# Altium schematic symbol library Sika_revb.SchLib: 143 symbols (part 1 of 3)
Pins are listed as number, name and electrical type; pins without a type are passive.

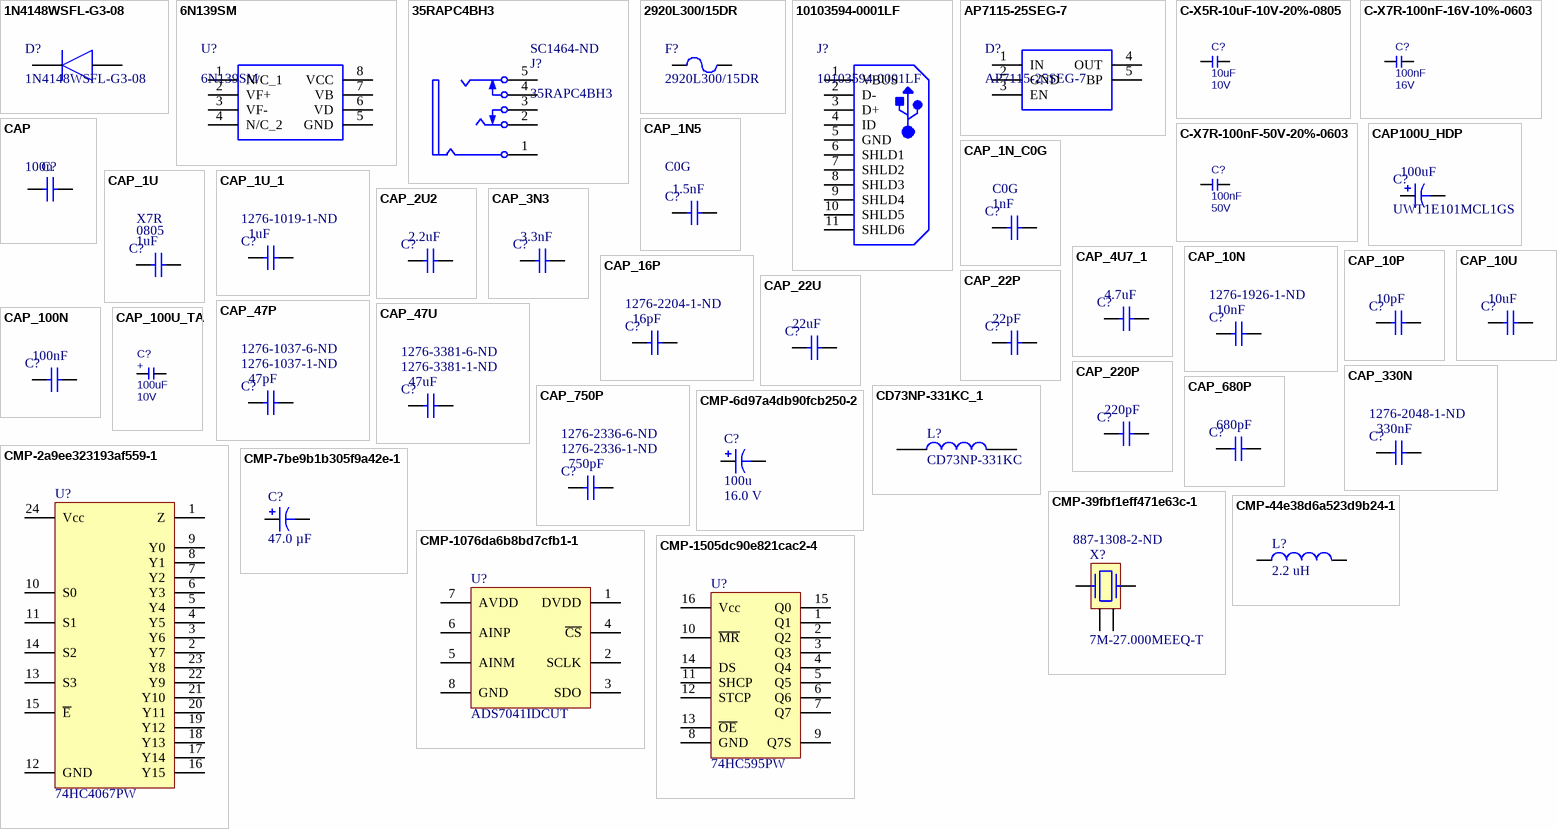
[diagram p0: symbols 1N4148WSFL-G3-08 to CMP-1505dc90e821cac2-4]

## 1N4148WSFL-G3-08
designator D?
Diodes - General Purpose, Power, Switching 100volt 350mA 4ns; Manufacturer: Vishay Semiconductors; Max Repetitive Reverse Voltage (Vrrm): 100V; Forward Current: 150mA; Element Configuration: Single; Max Reverse Voltage (DC): 75V; Forward Voltage: 1.2V; Peak Reverse Current: 100uA; Power Dissipation: 250mW; Max Power Dissipation: 200mW; Manufacturer Part Number: 1N4148WSFL-G3-08; Mount: Surface Mount; Number of Pins: 2; Weight: 0.001164oz; Contact Plating: Tin; Min Operating Temperature: -55°C; Max Operating Temperature: 150°C; Packaging: Tape and Reel; Package Quantity: 3000; Reverse Recovery Time: 4ns; Average Rectified Current: 150mA; Recovery Time: 4ns; Peak Non-Repetitive Surge Current: 350mA; Max Surge Current: 350mA; Length: 1.8mm; Height: 1mm; Width: 1.35mm; ComponentLink1URL: https://media.digikey.com/pdf/Data%20Sheets/Vishay%20Semiconductors/1N4148WSFL-G.pdf; ComponentLink1Description: https://media.digikey.com/pdf/Data%20Sheets/Vishay%20Semiconductors/1N4148WSFL-G.pdf; ComponentLink2URL: //media.digikey.com/pdf/Data%20Sheets/Vishay%20Semiconductors/1N4148WSFL-G.pdf; ComponentLink2Description: //media.digikey.com/pdf/Data%20Sheets/Vishay%20Semiconductors/1N4148WSFL-G.pdf; Supplier 1: Mouser; Supplier 2: Digi-Key; Supplier Part Number 1: 512-1N914BWS; Supplier Part Number 2: 1N4148WSFL-G3-08GICT-ND
footprint SOD2513X120N
pins: 1 K, 2 A

## 6N139SM
designator U?
Optocoupler DC-IN 1-CH Darlington With Base DC-OUT 8-Pin PDIP SMD White Bulk; Manufacturer: ON Semiconductor / Fairchild; Number of Channels: 1; Max Power Dissipation: 100mW; Forward Current: 20mA; Rise Time: 60us; Reverse Breakdown Voltage: 5V; Forward Voltage: 1.7V; Output Voltage: 18V; Output Current per Channel: 60mA; Fall Time: 25us; Current Transfer Ratio: 1600%; Data Rate: 0.1Mbps; Manufacturer Part Number: 6N139SM; Mount: Surface Mount; Case/Package: SMD/SMT; Number of Pins: 8; Weight: 0.72g; Min Operating Temperature: -40°C; Max Operating Temperature: 100°C; Packaging: Bulk; Package Quantity: 1000; Number of Elements: 1; Power Dissipation: 100mW; Max Input Current: 20mA; ComponentLink1URL: http://www.fairchildsemi.com/datasheets/6N/6N138M.pdf; ComponentLink1Description: http://www.fairchildsemi.com/datasheets/6N/6N138M.pdf; ComponentLink2URL: http://www.mouser.com/ds/2/149/6N139M-465959.pdf; ComponentLink2Description: http://www.mouser.com/ds/2/149/6N139M-465959.pdf; ComponentLink3URL: https://www.fairchildsemi.com/datasheets/6N/6N138M.pdf; ComponentLink3Description: https://www.fairchildsemi.com/datasheets/6N/6N138M.pdf; Supplier 1: Digi-Key; Supplier 2: Digi-Key; Supplier Part Number 1: 6N139SM-ND; Supplier Part Number 2: 6N139SMCT-ND
footprint SOT254P1054X508-8N
pins: 1 N/C_1, 2 VF+, 3 VF-, 4 N/C_2, 5 GND, 6 VD, 7 VB, 8 VCC (power)

## 35RAPC4BH3
designator J?  Supplier Part Number 1: SC1464-ND
CONN JACK STEREO 3.5MM R/A; Manufacturer: Switchcraft; Body Material: Plastic; Number of Poles: 3; Gender: Female; Voltage Rating: 500V; Shielding: Unshielded; Number of Ports: 1; Number of Contacts: 5; Cable Length: 17.5mm; Supplier 1: Digi-Key; Manufacturer Part Number: 35RAPC4BH3; Stock 1: 31843; Pricing 1: 1 = 2,10000, 10 = 2,01600, 25 = 1,84800, 50 = 1,76400, 100 = 1,68000, 250 = 1,47000, 500 = 1,42800, 1000 = 1,31250 (USD); RoHS: Yes; Mount: Through Hole; Weight: 0.059966oz; Contact Plating: Nickel; Color: Black; Contact Material: Copper Alloy; Number of Terminals: 5; Housing Color: Black; Housing Material: Thermoplastic; Package Quantity: 1; Packaging: Bulk; Termination: Solder; Orientation: Right Angle; Number of Positions: 3; Length: 11.5mm; Depth: 17.5mm; REACH SVHC: No SVHC; Lead Free: Lead Free; ComponentLink1URL: https://datasheet.ciiva.com/19454/568392-19454146.pdf?src-supplier=Jameco; ComponentLink1Description: https://datasheet.ciiva.com/19454/568392-19454146.pdf?src-supplier=Jameco; ComponentLink2URL: https://datasheet.ciiva.com/20210/20-1660-20210974.pdf?src-supplier=Rapid+Electronics; ComponentLink2Description: https://datasheet.ciiva.com/20210/20-1660-20210974.pdf?src-supplier=Rapid+Electronics; ComponentLink3URL: https://datasheet.ciiva.com/16878/70214416-16878982.pdf?src-supplier=Allied+Electronics; ComponentLink3Description: https://datasheet.ciiva.com/16878/70214416-16878982.pdf?src-supplier=Allied+Electronics; ComponentLink4URL: https://datasheet.ciiva.com/390/35rapc-h3-cd-390492.pdf?src-supplier=Digi-Key; ComponentLink4Description: https://datasheet.ciiva.com/390/35rapc-h3-cd-390492.pdf?src-supplier=Digi-Key
footprint 35RAPC4BH3
pins: 1 S, 2 T, 3 TN, 4 RN, 5 R

## 2920L300/15DR
designator F?
PTC RESETTABLE 15V 3A SMD 2920; Manufacturer: Littelfuse; Max Current Rating: 40A; Resistance: 48mR; Power Dissipation: 1.5W; Trip Current: 5A; Time to Trip: 20s; Approvals: cULus,TUV; Manufacturer Part Number: 2920L300/15DR; Case/Package: 2920; Case Code (Metric): 7351; Case Code (Imperial): 2920; Min Operating Temperature: -40°C; Max Operating Temperature: 85°C; Operating Supply Voltage: 15V; Packaging: Tape and Reel; Current Rating: 40A; Package Quantity: 1500; Termination: SMD/SMT; Max Voltage Rating (DC): 15V; Hold Current: 3A; Voltage Rating (DC): 15V; Working Voltage: 15V; Length: 7.36mm; REACH SVHC: No SVHC; Lead Free: Lead Free; ComponentLink1URL: http://www.farnell.com/datasheets/578244.pdf; ComponentLink1Description: http://www.farnell.com/datasheets/578244.pdf; ComponentLink2URL: http://www.littelfuse.com/data/en/Data_Sheets/Littelfuse_2920L.pdf; ComponentLink2Description: http://www.littelfuse.com/data/en/Data_Sheets/Littelfuse_2920L.pdf; ComponentLink3URL: http://www.littelfuse.com/~/media/electronics/datasheets/resettable_ptcs/littelfuse_ptc_2920l_datasheet.pdf.pdf; ComponentLink3Description: http://www.littelfuse.com/~/media/electronics/datasheets/resettable_ptcs/littelfuse_ptc_2920l_datasheet.pdf.pdf; Supplier 1: Mouser; Supplier Part Number 1: 576-2920L300/15DR
footprint LFUS-2920L30015DR_V (SMD, 2-Leads, Body 5.12x7.355mm)
pins: 1, 2

## 10103594-0001LF
designator J?
USB - micro B USB 2.0 Receptacle Connector 5 Position Surface Mount, Right Angle, Horizontal; Manufacturer: Amphenol FCI; Voltage Rating: 100V; Current Rating: 1.8A; Connector Type: Receptacle,USB; Number of Ports: 1; Insulation Resistance: 1GR; Number of Contacts: 5; USB Standard: USB 2.0; Pitch: 0.65mm; Manufacturer Part Number: 10103594-0001LF; Mount: Horizontal,Surface Mount; Contact Plating: Gold; Contact Material: Copper,Copper Alloy; Number of Terminals: 5; Housing Material: Thermoplastic; Min Operating Temperature: -55°C; Max Operating Temperature: 85°C; Termination: Solder; Orientation: Right Angle; Gender: Receptacle; Packaging: Tape and Reel; Package Quantity: 1500; Max Voltage Rating (AC): 100V; Features: Shielded; Length: 8.04mm; Radiation Hardening: No; REACH SVHC: No SVHC; Lead Free: Lead Free; Supplier 1: Digi-Key; Supplier Part Number 1: 609-4613-1-ND
footprint micro usb
pins: 1 VBUS, 2 D-, 3 D+, 4 ID, 5 GND, 6 SHLD1, 7 SHLD2, 8 SHLD3, 9 SHLD4, 10 SHLD5, 11 SHLD6

## AP7115-25SEG-7
designator D?
PSU_IC REG LDO 2.5V 0.15A SOT353; Manufacturer: Diodes; Max Power Dissipation: 500mW; Number of Outputs: 1; Max Input Voltage: 5.5V; Max Output Current: 150mA; Quiescent Current: 80uA; Polarity: Positive; Accuracy: 2%; Output Type: Fixed; Dropout Voltage: 200mV; Min Current Limit: 200mA; Power Supply Rejection Ratio (PSRR): 70dB; Manufacturer Part Number: AP7115-25SEG-7; Mount: Surface Mount; Case/Package: SOT-353; Number of Pins: 5; Contact Plating: Matte,Tin; Min Operating Temperature: -40°C; Max Operating Temperature: 85°C; Output Voltage: 2.5V; Packaging: Tape and Reel; Min Input Voltage: 2.5V; Package Quantity: 1; Output Current: 150mA; Number of Regulators: 1; Power Rating: 500mW; Input Bias Current: 80uA; Length: 3mm; Height: 1.1mm; Width: 1.6mm; Supplier 1: Digi-Key; Supplier Part Number 1: AP7115-25SEGDICT-ND
footprint SOT65P210X110-5N
pins: 1 IN, 2 GND, 3 EN, 4 OUT, 5 BP

## C-X5R-10uF-10V-20%-0805
designator C?, comment Capacitance: 10uF  Rating: 10V  (hidden comment: CL21A106MPFNNNE)
Capacitor Ceramic X5R 10uF 10V 20% 0805; Tolerance: 20%; Temperature coefficient: X5R; Supplier 1: Digi-Key; Supplier 2: Digi-Key; Supplier Part Number 1: 1276-1144-1-ND; Supplier Part Number 2: 1276-1144-6-ND
footprint T_CAPC0805X125N (Footprint not found)
pins: 1, 2

## C-X7R-100nF-16V-10%-0603
designator C?, comment Rating: 16V  (hidden comment: 100nF)
Capacitor Ceramic X7R 100nF 16V 10% 0603; Tolerance: 10%; Type: X7R; Value: 100nF
footprint T_CAPC0603X33N
pins: 1, 2

## C-X7R-100nF-50V-20%-0603
designator C?, comment Rating: 50V  (hidden comment: 100nF)
Capacitor Ceramic X7R 100nF 50V 20% 0603; Tolerance: 20%; Type: X7R; Value: 100nF
footprint T_CAPC0603X33N
pins: 1, 2

## CAP
designator C?  Capacitance: 100n
Generic Capacitor, credits for 3D models: Mike Tripoli; Voltage rating: *V; CustomComponentID: e3upc6qrffzvpl01piyy; Characteristic: *
footprint C0402
footprint C0603
footprint C0805
footprint C1210
pins: 1, 2

## CAP100U_HDP
designator C?, comment UWT1E101MCL1GS  Capacitance: 100uF
CAP ALUM 100UF 20% 25V SMD; Manufacturer: Nichicon; Dielectric Material: Aluminium; Ripple Current: 91mA; Leakage Current: 25uA; Life (Hours): 1000Hour; Supplier 1: Digi-Key; Manufacturer Part Number: UWT1E101MCL1GS; Stock 1: 50190; Pricing 1: 1 = 0,42000, 10 = 0,29000, 100 = 0,17420 (USD); RoHS: Yes; Mount: Surface Mount; Case/Package: Radial; Number of Pins: 2; Contact Plating: Tin; Min Operating Temperature: -55°C; Max Operating Temperature: 105°C; Tolerance: 20%; Package Quantity: 900; Voltage Rating: 25V; Packaging: Tape and Reel; Ripple Current (AC): 91mA; Voltage Rating (DC): 25V; Termination: SMD/SMT; Voltage: 25V; Diameter: 6.3mm; Length: 7.7mm; Height: 7.7mm; Height - Seated (Max): 0.303inch; Radiation Hardening: No; REACH SVHC: No SVHC; Lead Free: Lead Free; ComponentLink1URL: https://datasheet.ciiva.com/96/e-wt-96674.pdf?src-supplier=Digi-Key; ComponentLink1Description: https://datasheet.ciiva.com/96/e-wt-96674.pdf?src-supplier=Digi-Key; ComponentLink2URL: https://datasheet.ciiva.com/96/e-wt-96675.pdf?src-supplier=Digi-Key; ComponentLink2Description: https://datasheet.ciiva.com/96/e-wt-96675.pdf?src-supplier=Digi-Key; ComponentLink3URL: https://datasheet.ciiva.com/96/e-wt-96676.pdf?src-supplier=Digi-Key; ComponentLink3Description: https://datasheet.ciiva.com/96/e-wt-96676.pdf?src-supplier=Digi-Key; ComponentLink4URL: https://datasheet.ciiva.com/11776/0900766b80fa3a91-11776931.pdf?src-supplier=RSComponents; ComponentLink4Description: https://datasheet.ciiva.com/11776/0900766b80fa3a91-11776931.pdf?src-supplier=RSComponents; ComponentLink5URL: https://datasheet.ciiva.com/7851/e-wt-7851752.pdf?src-supplier=Element14; ComponentLink5Description: https://datasheet.ciiva.com/7851/e-wt-7851752.pdf?src-supplier=Element14; ComponentLink6URL: https://datasheet.ciiva.com/16394/e-wt-16394764.pdf?src-supplier=Future+Electronics; ComponentLink6Description: https://datasheet.ciiva.com/16394/e-wt-16394764.pdf?src-supplier=Future+Electronics; Supplier Part Number 1: 493-2190-1-ND
footprint CAPAE7066X54M
pins: 1, 2

## CAP_1N5
designator C?, comment Dielectric: C0G  Capacitance: 1.5nF  (hidden comment: CL10C152JB8NNNC)
Cap Ceramic 10%; Manufacturer: Samsung; Manufacturer Part Number: CL10B105KO8NNNC; Voltage Rating: 16V; RoHS: Yes; Mount: Surface Mount; Case/Package: 0603; Case Code (Metric): 1608; Case Code (Imperial): 0603; Material: Ceramic; Min Operating Temperature: -55°C; Max Operating Temperature: 125°C; Tolerance: 10%; Packaging: Tape and Reel; Voltage: 16V; Voltage Rating (DC): 16V; Length: 1.6mm; Height: 0.8mm; Width: 0.031inch; Thickness: 0.035inch; Depth: 0.8mm; Radiation Hardening: No; Lead Free: Lead Free; ComponentLink1URL: https://www.verical.com/server-webapp/html/getDatasheet?partID=357418&src-supplier=Verical; ComponentLink1Description: https://www.verical.com/server-webapp/html/getDatasheet?partID=357418&src-supplier=Verical; ComponentLink2URL: https://produktinfo.conrad.com/datenblaetter/450000-474999/458176-da-01-en-VS_KONDENSATOR_0603.pdf?src-supplier=Conrad; ComponentLink2Description: https://produktinfo.conrad.com/datenblaetter/450000-474999/458176-da-01-en-VS_KONDENSATOR_0603.pdf?src-supplier=Conrad; Supplier 1: Digi-Key; Supplier 2: Digi-Key; Supplier Part Number 2: 1276-2203-6-ND; Supplier Part Number 1: 1276-2203-1-ND
footprint C0603
pins: 1, 2

## CAP_1N_C0G
designator C?, comment Dielectric: C0G  Capacitance: 1nF  (hidden comment: CL10C102JB8NNNC)
Cap Ceramic 10%; Manufacturer: Samsung; Manufacturer Part Number: CL10B105KO8NNNC; Voltage Rating: 16V; RoHS: Yes; Mount: Surface Mount; Case/Package: 0603; Case Code (Metric): 1608; Case Code (Imperial): 0603; Material: Ceramic; Min Operating Temperature: -55°C; Max Operating Temperature: 125°C; Tolerance: 10%; Packaging: Tape and Reel; Voltage: 16V; Voltage Rating (DC): 16V; Length: 1.6mm; Height: 0.8mm; Width: 0.031inch; Thickness: 0.035inch; Depth: 0.8mm; Radiation Hardening: No; Lead Free: Lead Free; ComponentLink1URL: https://www.verical.com/server-webapp/html/getDatasheet?partID=357418&src-supplier=Verical; ComponentLink1Description: https://www.verical.com/server-webapp/html/getDatasheet?partID=357418&src-supplier=Verical; ComponentLink2URL: https://produktinfo.conrad.com/datenblaetter/450000-474999/458176-da-01-en-VS_KONDENSATOR_0603.pdf?src-supplier=Conrad; ComponentLink2Description: https://produktinfo.conrad.com/datenblaetter/450000-474999/458176-da-01-en-VS_KONDENSATOR_0603.pdf?src-supplier=Conrad; Supplier 1: Digi-Key; Supplier Part Number 1: 1276-1091-1-ND
footprint C0603
pins: 1, 2

## CAP_1U
designator C?, comment Case/Package: 0805  Dielectric: X7R  Capacitance: 1uF  (hidden comment: CL21B105KAFNNNE)
Cap Ceramic 10%; Manufacturer: Samsung; Manufacturer Part Number: CL10B105KO8NNNC; Voltage Rating: 16V; RoHS: Yes; Mount: Surface Mount; Case Code (Metric): 1608; Case Code (Imperial): 0603; Material: Ceramic; Min Operating Temperature: -55°C; Max Operating Temperature: 125°C; Tolerance: 10%; Packaging: Tape and Reel; Voltage: 16V; Voltage Rating (DC): 16V; Length: 1.6mm; Height: 0.8mm; Width: 0.031inch; Thickness: 0.035inch; Depth: 0.8mm; Radiation Hardening: No; Lead Free: Lead Free; ComponentLink1URL: https://www.verical.com/server-webapp/html/getDatasheet?partID=357418&src-supplier=Verical; ComponentLink1Description: https://www.verical.com/server-webapp/html/getDatasheet?partID=357418&src-supplier=Verical; ComponentLink2URL: https://produktinfo.conrad.com/datenblaetter/450000-474999/458176-da-01-en-VS_KONDENSATOR_0603.pdf?src-supplier=Conrad; ComponentLink2Description: https://produktinfo.conrad.com/datenblaetter/450000-474999/458176-da-01-en-VS_KONDENSATOR_0603.pdf?src-supplier=Conrad; Supplier 1: Digi-Key; Supplier 2: Digi-Key; Supplier Part Number 1: 1276-1066-1-ND; Supplier Part Number 2: 1276-1066-6-ND
footprint c0805
pins: 1, 2

## CAP_1U_1
designator C?, comment Capacitance: 1uF  Supplier Part Number 1: 1276-1019-1-ND  (hidden comment: CL10B105KO8NNNC)
Cap Ceramic 10%; Manufacturer: Samsung; Dielectric: X7R; Voltage Rating: 16V; Manufacturer Part Number: CL10B105KO8NNNC; RoHS: Yes; Mount: Surface Mount; Case/Package: 0603; Case Code (Metric): 1608; Case Code (Imperial): 0603; Material: Ceramic; Min Operating Temperature: -55°C; Max Operating Temperature: 125°C; Tolerance: 10%; Packaging: Tape and Reel; Voltage: 16V; Voltage Rating (DC): 16V; Length: 1.6mm; Height: 0.8mm; Width: 0.031inch; Thickness: 0.035inch; Depth: 0.8mm; Radiation Hardening: No; Lead Free: Lead Free; ComponentLink1URL: https://www.verical.com/server-webapp/html/getDatasheet?partID=357418&src-supplier=Verical; ComponentLink1Description: https://www.verical.com/server-webapp/html/getDatasheet?partID=357418&src-supplier=Verical; ComponentLink2URL: https://produktinfo.conrad.com/datenblaetter/450000-474999/458176-da-01-en-VS_KONDENSATOR_0603.pdf?src-supplier=Conrad; ComponentLink2Description: https://produktinfo.conrad.com/datenblaetter/450000-474999/458176-da-01-en-VS_KONDENSATOR_0603.pdf?src-supplier=Conrad; Supplier 1: Digi-Key
footprint C0603
pins: 1, 2

## CAP_2U2
designator C?, comment Capacitance: 2.2uF  (hidden comment: CL10B225KP8NNNC)
Cap Ceramic 10%; Manufacturer: Samsung; Dielectric: X7R; Voltage Rating: 10V; Mount: Surface Mount; Case/Package: 0603; Material: Ceramic; Tolerance: 10%; Length: 1.6mm; ComponentLink1URL: https://www.verical.com/server-webapp/html/getDatasheet?partID=357418&src-supplier=Verical; ComponentLink1Description: https://www.verical.com/server-webapp/html/getDatasheet?partID=357418&src-supplier=Verical; ComponentLink2URL: https://produktinfo.conrad.com/datenblaetter/450000-474999/458176-da-01-en-VS_KONDENSATOR_0603.pdf?src-supplier=Conrad; ComponentLink2Description: https://produktinfo.conrad.com/datenblaetter/450000-474999/458176-da-01-en-VS_KONDENSATOR_0603.pdf?src-supplier=Conrad; Supplier 1: Digi-Key; Supplier 2: Digi-Key; Supplier Part Number 1: 1276-1134-1-ND; Supplier Part Number 2: 1276-1134-6-ND
footprint C0603
pins: 1, 2

## CAP_3N3
designator C?, comment Capacitance: 3.3nF  (hidden comment: GRM1885C1H332JA01D)
Cap Ceramic 5%; Manufacturer: Murata; Dielectric: C0G; Voltage Rating: 50 V; Mount: Surface Mount; Case/Package: 0603; Material: Ceramic; Tolerance: 5%; ComponentLink1URL: https://www.verical.com/server-webapp/html/getDatasheet?partID=357418&src-supplier=Verical; ComponentLink1Description: https://www.verical.com/server-webapp/html/getDatasheet?partID=357418&src-supplier=Verical; ComponentLink2URL: https://produktinfo.conrad.com/datenblaetter/450000-474999/458176-da-01-en-VS_KONDENSATOR_0603.pdf?src-supplier=Conrad; ComponentLink2Description: https://produktinfo.conrad.com/datenblaetter/450000-474999/458176-da-01-en-VS_KONDENSATOR_0603.pdf?src-supplier=Conrad; Supplier 1: Mouser; Supplier Part Number 1: 81-GRM1885C1H332JA1D
footprint C0603
pins: 1, 2

## CAP_4U7_1
designator C?, comment Capacitance: 4.7uF  (hidden comment: CL21B475KOFNFNE)
Cap Ceramic 10%; Manufacturer: Samsung; Dielectric: X7R; Voltage Rating: 16v; Mount: Surface Mount; Case/Package: 0805; Material: Ceramic; Tolerance: 10%; ComponentLink1URL: https://www.verical.com/server-webapp/html/getDatasheet?partID=357418&src-supplier=Verical; ComponentLink1Description: https://www.verical.com/server-webapp/html/getDatasheet?partID=357418&src-supplier=Verical; ComponentLink2URL: https://produktinfo.conrad.com/datenblaetter/450000-474999/458176-da-01-en-VS_KONDENSATOR_0603.pdf?src-supplier=Conrad; ComponentLink2Description: https://produktinfo.conrad.com/datenblaetter/450000-474999/458176-da-01-en-VS_KONDENSATOR_0603.pdf?src-supplier=Conrad; Supplier 1: Digi-Key; Supplier 2: Digi-Key; Supplier Part Number 1: 1276-2970-1-ND; Supplier Part Number 2: 1276-2970-6-ND
footprint c0805
pins: 1, 2

## CAP_10N
designator C?, comment Capacitance: 10nF  Supplier Part Number 1: 1276-1926-1-ND  (hidden comment: CL10B103KO8NNNC)
Cap Ceramic 10%; Manufacturer: Samsung; Manufacturer Part Number: CL10B105KO8NNNC; Dielectric: X7R; Voltage Rating: 16V; RoHS: Yes; Mount: Surface Mount; Case/Package: 0603; Case Code (Metric): 1608; Case Code (Imperial): 0603; Material: Ceramic; Min Operating Temperature: -55°C; Max Operating Temperature: 125°C; Tolerance: 10%; Packaging: Tape and Reel; Voltage: 16V; Voltage Rating (DC): 16V; Length: 1.6mm; Height: 0.8mm; Width: 0.031inch; Thickness: 0.035inch; Depth: 0.8mm; Radiation Hardening: No; Lead Free: Lead Free; ComponentLink1URL: https://www.verical.com/server-webapp/html/getDatasheet?partID=357418&src-supplier=Verical; ComponentLink1Description: https://www.verical.com/server-webapp/html/getDatasheet?partID=357418&src-supplier=Verical; ComponentLink2URL: https://produktinfo.conrad.com/datenblaetter/450000-474999/458176-da-01-en-VS_KONDENSATOR_0603.pdf?src-supplier=Conrad; ComponentLink2Description: https://produktinfo.conrad.com/datenblaetter/450000-474999/458176-da-01-en-VS_KONDENSATOR_0603.pdf?src-supplier=Conrad; Supplier 1: Digi-Key
footprint C0603
pins: 1, 2

## CAP_10P
designator C?, comment Capacitance: 10pF  (hidden comment: CL10C100CB8NNNC)
Cap Ceramic; Manufacturer: Samsung; Dielectric: C0G; Voltage Rating: 50V; Mount: Surface Mount; Case/Package: 0603; Material: Ceramic; ComponentLink1URL: https://www.verical.com/server-webapp/html/getDatasheet?partID=357418&src-supplier=Verical; ComponentLink1Description: https://www.verical.com/server-webapp/html/getDatasheet?partID=357418&src-supplier=Verical; ComponentLink2URL: https://produktinfo.conrad.com/datenblaetter/450000-474999/458176-da-01-en-VS_KONDENSATOR_0603.pdf?src-supplier=Conrad; ComponentLink2Description: https://produktinfo.conrad.com/datenblaetter/450000-474999/458176-da-01-en-VS_KONDENSATOR_0603.pdf?src-supplier=Conrad; Supplier 1: Digi-Key; Supplier 2: Digi-Key; Supplier Part Number 1: 1276-1069-1-ND; Supplier Part Number 2: 1276-1069-2-ND
footprint C0603
pins: 1, 2

## CAP_10U
designator C?, comment Capacitance: 10uF  (hidden comment: CL32B106KAJNNNE)
Cap Ceramic 10%; Manufacturer: Samsung; Dielectric: X7R; Voltage Rating: 25V; Mount: Surface Mount; Case/Package: 1210; Material: Ceramic; Tolerance: 10%; ComponentLink1URL: https://www.verical.com/server-webapp/html/getDatasheet?partID=357418&src-supplier=Verical; ComponentLink1Description: https://www.verical.com/server-webapp/html/getDatasheet?partID=357418&src-supplier=Verical; ComponentLink2URL: https://produktinfo.conrad.com/datenblaetter/450000-474999/458176-da-01-en-VS_KONDENSATOR_0603.pdf?src-supplier=Conrad; ComponentLink2Description: https://produktinfo.conrad.com/datenblaetter/450000-474999/458176-da-01-en-VS_KONDENSATOR_0603.pdf?src-supplier=Conrad; Supplier 1: Digi-Key; Supplier 2: Digi-Key; Supplier Part Number 1: 1276-1807-1-ND; Supplier Part Number 2: 1276-1807-6-ND
footprint c1210
pins: 1, 2

## CAP_16P
designator C?, comment Capacitance: 16pF  Supplier Part Number 1: 1276-2204-1-ND  (hidden comment: CL10C160JB8NNNC)
Cap Ceramic; Manufacturer: Samsung; Dielectric: C0G; Voltage Rating: 50V; Mount: Surface Mount; Case/Package: 0603; Material: Ceramic; ComponentLink1URL: https://www.verical.com/server-webapp/html/getDatasheet?partID=357418&src-supplier=Verical; ComponentLink1Description: https://www.verical.com/server-webapp/html/getDatasheet?partID=357418&src-supplier=Verical; ComponentLink2URL: https://produktinfo.conrad.com/datenblaetter/450000-474999/458176-da-01-en-VS_KONDENSATOR_0603.pdf?src-supplier=Conrad; ComponentLink2Description: https://produktinfo.conrad.com/datenblaetter/450000-474999/458176-da-01-en-VS_KONDENSATOR_0603.pdf?src-supplier=Conrad; Supplier 1: Digi-Key
footprint C0603
pins: 1, 2

## CAP_22P
designator C?, comment Capacitance: 22pF  (hidden comment: CL10C220JB8NNNC)
Cap Ceramic; Manufacturer: Samsung; Dielectric: C0G; Voltage Rating: 50V; Mount: Surface Mount; Case/Package: 0603; Material: Ceramic; ComponentLink1URL: https://www.verical.com/server-webapp/html/getDatasheet?partID=357418&src-supplier=Verical; ComponentLink1Description: https://www.verical.com/server-webapp/html/getDatasheet?partID=357418&src-supplier=Verical; ComponentLink2URL: https://produktinfo.conrad.com/datenblaetter/450000-474999/458176-da-01-en-VS_KONDENSATOR_0603.pdf?src-supplier=Conrad; ComponentLink2Description: https://produktinfo.conrad.com/datenblaetter/450000-474999/458176-da-01-en-VS_KONDENSATOR_0603.pdf?src-supplier=Conrad; Supplier 1: Digi-Key; Supplier Part Number 1: 1276-1023-6-ND
footprint C0603
pins: 1, 2

## CAP_22U
designator C?, comment Capacitance: 22uF  (hidden comment: CL32B226KAJNNNE)
Cap Ceramic 10%; Manufacturer: Samsung; Dielectric: X7R; Voltage Rating: 25V; Mount: Surface Mount; Case/Package: 1210; Material: Ceramic; Tolerance: 10%; ComponentLink1URL: https://www.verical.com/server-webapp/html/getDatasheet?partID=357418&src-supplier=Verical; ComponentLink1Description: https://www.verical.com/server-webapp/html/getDatasheet?partID=357418&src-supplier=Verical; ComponentLink2URL: https://produktinfo.conrad.com/datenblaetter/450000-474999/458176-da-01-en-VS_KONDENSATOR_0603.pdf?src-supplier=Conrad; ComponentLink2Description: https://produktinfo.conrad.com/datenblaetter/450000-474999/458176-da-01-en-VS_KONDENSATOR_0603.pdf?src-supplier=Conrad; Supplier 1: Digi-Key; Supplier 2: Digi-Key; Supplier Part Number 1: 1276-3392-1-ND; Supplier Part Number 2: 1276-3392-6-ND
footprint c1210
pins: 1, 2

## CAP_47P
designator C?, comment Capacitance: 47pF  Supplier Part Number 1: 1276-1037-1-ND  Supplier Part Number 2: 1276-1037-6-ND  (hidden comment: CL10C470JB8NNNC)
Cap Ceramic 5%; Manufacturer: Samsung; Dielectric: C0G; Voltage Rating: 50V; Mount: Surface Mount; Case/Package: 0603; Material: Ceramic; Tolerance: 5%; ComponentLink1URL: https://www.verical.com/server-webapp/html/getDatasheet?partID=357418&src-supplier=Verical; ComponentLink1Description: https://www.verical.com/server-webapp/html/getDatasheet?partID=357418&src-supplier=Verical; ComponentLink2URL: https://produktinfo.conrad.com/datenblaetter/450000-474999/458176-da-01-en-VS_KONDENSATOR_0603.pdf?src-supplier=Conrad; ComponentLink2Description: https://produktinfo.conrad.com/datenblaetter/450000-474999/458176-da-01-en-VS_KONDENSATOR_0603.pdf?src-supplier=Conrad; Supplier 1: Digi-Key; Supplier 2: Digi-Key
footprint C0603
pins: 1, 2

## CAP_47U
designator C?, comment Capacitance: 47uF  Supplier Part Number 1: 1276-3381-1-ND  Supplier Part Number 2: 1276-3381-6-ND  (hidden comment: CL32A476MQJNNNE)
Cap Ceramic 20%; Manufacturer: Samsung; Dielectric: X5R; Voltage Rating: 6.3V; Mount: Surface Mount; Case/Package: 1210; Material: Ceramic; Tolerance: 20%; ComponentLink1URL: https://www.verical.com/server-webapp/html/getDatasheet?partID=357418&src-supplier=Verical; ComponentLink1Description: https://www.verical.com/server-webapp/html/getDatasheet?partID=357418&src-supplier=Verical; ComponentLink2URL: https://produktinfo.conrad.com/datenblaetter/450000-474999/458176-da-01-en-VS_KONDENSATOR_0603.pdf?src-supplier=Conrad; ComponentLink2Description: https://produktinfo.conrad.com/datenblaetter/450000-474999/458176-da-01-en-VS_KONDENSATOR_0603.pdf?src-supplier=Conrad; Supplier 1: Digi-Key; Supplier 2: Digi-Key
footprint c1210
pins: 1, 2

## CAP_100N
designator C?, comment Capacitance: 100nF  (hidden comment: CL10B104KO8NNNC)
Cap Ceramic 10%; Manufacturer: Samsung; Manufacturer Part Number: CL10B105KO8NNNC; Dielectric: X7R; Voltage Rating: 16V; RoHS: Yes; Mount: Surface Mount; Case/Package: 0603; Case Code (Metric): 1608; Case Code (Imperial): 0603; Material: Ceramic; Min Operating Temperature: -55°C; Max Operating Temperature: 125°C; Tolerance: 10%; Packaging: Tape and Reel; Voltage: 16V; Voltage Rating (DC): 16V; Length: 1.6mm; Height: 0.8mm; Width: 0.031inch; Thickness: 0.035inch; Depth: 0.8mm; Radiation Hardening: No; Lead Free: Lead Free; ComponentLink1URL: https://www.verical.com/server-webapp/html/getDatasheet?partID=357418&src-supplier=Verical; ComponentLink1Description: https://www.verical.com/server-webapp/html/getDatasheet?partID=357418&src-supplier=Verical; ComponentLink2URL: https://produktinfo.conrad.com/datenblaetter/450000-474999/458176-da-01-en-VS_KONDENSATOR_0603.pdf?src-supplier=Conrad; ComponentLink2Description: https://produktinfo.conrad.com/datenblaetter/450000-474999/458176-da-01-en-VS_KONDENSATOR_0603.pdf?src-supplier=Conrad; Supplier 1: Digi-Key; Supplier 2: Digi-Key; Supplier Part Number 1: 1276-1005-1-ND; Supplier Part Number 2: 1276-1005-2-ND
footprint C0603
pins: 1, 2

## CAP_100U_TA
designator C?, comment value 100uF  Rating: 10V  (hidden comment: T491C107K010AT)
Capacitor TA 100uF 10V 10% 6032; Tolerance: 10%; Type: TA; Supplier 1: Digi-Key; Supplier Part Number 1: 399-8338-1-ND
footprint CAPMP6032X280N (Cap Polarized 6032)
pins: 1, 2
text: +

## CAP_220P
designator C?, comment Capacitance: 220pF  (hidden comment: CL10C221JB8NNNC)
Cap Ceramic 10%; Manufacturer: Samsung; Dielectric: C0G; Voltage Rating: 50V; Mount: Surface Mount; Case/Package: 0603; Material: Ceramic; Tolerance: 10%; ComponentLink1URL: https://www.verical.com/server-webapp/html/getDatasheet?partID=357418&src-supplier=Verical; ComponentLink1Description: https://www.verical.com/server-webapp/html/getDatasheet?partID=357418&src-supplier=Verical; ComponentLink2URL: https://produktinfo.conrad.com/datenblaetter/450000-474999/458176-da-01-en-VS_KONDENSATOR_0603.pdf?src-supplier=Conrad; ComponentLink2Description: https://produktinfo.conrad.com/datenblaetter/450000-474999/458176-da-01-en-VS_KONDENSATOR_0603.pdf?src-supplier=Conrad; Supplier 1: Digi-Key; Supplier Part Number 1: 1276-1048-1-ND
footprint C0603
pins: 1, 2

## CAP_330N
designator C?, comment Capacitance: 330nF  Supplier Part Number 1: 1276-2048-1-ND  (hidden comment: CL10B334KO8NNNC)
Cap Ceramic 10%; Manufacturer: Samsung; Manufacturer Part Number: CL10B105KO8NNNC; Dielectric: X7R; Voltage Rating: 16V; RoHS: Yes; Mount: Surface Mount; Case/Package: 0603; Case Code (Metric): 1608; Case Code (Imperial): 0603; Material: Ceramic; Min Operating Temperature: -55°C; Max Operating Temperature: 125°C; Tolerance: 10%; Packaging: Tape and Reel; Voltage: 16V; Voltage Rating (DC): 16V; Length: 1.6mm; Height: 0.8mm; Width: 0.031inch; Thickness: 0.035inch; Depth: 0.8mm; Radiation Hardening: No; Lead Free: Lead Free; ComponentLink1URL: https://www.verical.com/server-webapp/html/getDatasheet?partID=357418&src-supplier=Verical; ComponentLink1Description: https://www.verical.com/server-webapp/html/getDatasheet?partID=357418&src-supplier=Verical; ComponentLink2URL: https://produktinfo.conrad.com/datenblaetter/450000-474999/458176-da-01-en-VS_KONDENSATOR_0603.pdf?src-supplier=Conrad; ComponentLink2Description: https://produktinfo.conrad.com/datenblaetter/450000-474999/458176-da-01-en-VS_KONDENSATOR_0603.pdf?src-supplier=Conrad; Supplier 1: Digi-Key
footprint C0603
pins: 1, 2

## CAP_680P
designator C?, comment Capacitance: 680pF  (hidden comment: CL10C681JB8NNNC)
Cap Ceramic 10%; Manufacturer: Samsung; Dielectric: C0G; Voltage Rating: 50V; Mount: Surface Mount; Case/Package: 0603; Material: Ceramic; Tolerance: 10%; ComponentLink1URL: https://www.verical.com/server-webapp/html/getDatasheet?partID=357418&src-supplier=Verical; ComponentLink1Description: https://www.verical.com/server-webapp/html/getDatasheet?partID=357418&src-supplier=Verical; ComponentLink2URL: https://produktinfo.conrad.com/datenblaetter/450000-474999/458176-da-01-en-VS_KONDENSATOR_0603.pdf?src-supplier=Conrad; ComponentLink2Description: https://produktinfo.conrad.com/datenblaetter/450000-474999/458176-da-01-en-VS_KONDENSATOR_0603.pdf?src-supplier=Conrad; Supplier 1: Digi-Key; Supplier 2: Digi-Key; Supplier Part Number 1: 1276-1820-1-ND; Supplier Part Number 2: 1276-1820-6-ND
footprint C0603
pins: 1, 2

## CAP_750P
designator C?, comment Capacitance: 750pF  Supplier Part Number 1: 1276-2336-1-ND  Supplier Part Number 2: 1276-2336-6-ND  (hidden comment: CL10C751JB8NNNC)
Cap Ceramic 10%; Manufacturer: Samsung; Dielectric: C0G; Voltage Rating: 50V; Mount: Surface Mount; Case/Package: 0603; Material: Ceramic; Tolerance: 10%; ComponentLink1URL: https://www.verical.com/server-webapp/html/getDatasheet?partID=357418&src-supplier=Verical; ComponentLink1Description: https://www.verical.com/server-webapp/html/getDatasheet?partID=357418&src-supplier=Verical; ComponentLink2URL: https://produktinfo.conrad.com/datenblaetter/450000-474999/458176-da-01-en-VS_KONDENSATOR_0603.pdf?src-supplier=Conrad; ComponentLink2Description: https://produktinfo.conrad.com/datenblaetter/450000-474999/458176-da-01-en-VS_KONDENSATOR_0603.pdf?src-supplier=Conrad; Supplier 1: Digi-Key; Supplier 2: Digi-Key
footprint C0603
pins: 1, 2

## CD73NP-331KC_1
designator L?, comment CD73NP-331KC
Fixed Inductors 330uH 0.28A 10% 1KHz SMD PWR IND; Manufacturer_Name: Sumida; Geometry.Height: 4mm; Manufacturer_Part_Number: CD73NP-331KC; RS Part Number: *; RS Price/Stock: *; Arrow Part Number: CD73NP-331KC; Arrow Price/Stock: *; Datasheet Link: https://products.sumida.com/products/pdf/CD73.pdf; Supplier 1: Mouser; Supplier Part Number 1: 851-CD73NP-331KC
footprint CD73NP331KC
pins: 1, 2

## CMP-2a9ee323193af559-1
designator U?, comment 74HC4067PW
74HC Series 5 V SMT Dual 16-Channel Analog Multiplexer/Demultiplexer - TSSOP-24; Manufacturer Part Number: 74HC4067PW,112; Lead-Free Status: Lead Free; Octopart URL: http://octopart.com/74hc4067pw%2C112-nxp+semiconductors-11998914; Packaging: Tube; RoHS: Compliant; Mounting Style: Surface Mount; Lifecycle Status: Active; OctopartID: 2a9ee323193af559; Supplier 1: Digi-Key; Supplier Part Number 1: 1727-3311-ND
footprint TSOP65P640X95-24N (TSOP, 24-Leads, Body 7.80x4.40mm, Pitch 0.65mm, IPC Medium Density)
pins: 1 Z, 2 Y7, 3 Y6, 4 Y5, 5 Y4, 6 Y3, 7 Y2, 8 Y1, 9 Y0, 10 S0, 11 S1, 12 GND, 13 S3, 14 S2, 15 ~{E}, 16 Y15, 17 Y14, 18 Y13, 19 Y12, 20 Y11, 21 Y10, 22 Y9, 23 Y8, 24 Vcc

## CMP-6d97a4db90fcb250-2
designator C?, comment 100u  Voltage Rating (DC): 16.0 V
Cap Aluminum Lytic 100uF 16V 20% (6.3 X 5.8mm) SMD 240mA 2000h 105°C Automotive T/R; Manufacturer Part Number: EEEFK1C101P; Lead-Free Status: Lead Free; Dielectric Material: Aluminum Electrolytic; Capacitance: 0.0001 F; Size-Height: 0.0058 m; REACH SVHC Compliance: No SVHC; OctopartID: 6d97a4db90fcb250; Size-Diameter: 0.0063 m; Capacitance Tolerance: ±20%; Size-Width: 0.0078 m; Mounting Style: Surface Mount; Size-Length: 0.0058 m; Number of Pins: 2; Packaging: Cut Tape (CT), Reel; Lifecycle Status: Not Listed by Manufacturer; RoHS: Compliant; Octopart URL: http://octopart.com/eeefk1c101p-panasonic-4642829
footprint PCB-bxqn8ynar2jwyklg28q2-1 (Footprint - Panasonic EEEFK1C101P)
pins: 1, 2

## CMP-7be9b1b305f9a42e-1
designator C?, comment Capacitance: 47.0 µF  (hidden comment: Panasonic EEE-1AA470WR)
Capacitor; Alum Electrolytic; Cap 47 uF; Tol 20%; Vol-Rtg 10 VDC; SMT; 5x5.5; Cut Tape; Voltage Rating (DC): 10.0 V; Lead-Free Status: Lead Free; Octopart URL: http://octopart.com/eee-1aa470wr-panasonic-55597942; Manufacturer Part Number: EEE-1AA470WR; Size-Height: 5.40 mm; RoHS: Compliant; REACH SVHC Compliance: No SVHC; Mounting Style: Surface Mount; Packaging: Cut Tape (CT), Tape & Reel (TR); Lifecycle Status: Not Listed by Manufacturer; Capacitance Tolerance: ±20%; Size-Diameter: 5.00 mm; OctopartID: 7be9b1b305f9a42e; Supplier 1: Digi-Key; Supplier 2: Mouser; Supplier Part Number 1: PCE3875CT-ND; Supplier Part Number 2: 667-EEE-1AA470WR
footprint PCB-uq8d9yq4jmh6jcskxxgg-1 (Footprint - Panasonic EEE-1AA470WR)
pins: 1, 2

## CMP-39fbf1eff471e63c-1
designator X?, comment 7M-27.000MEEQ-T  Supplier Part Number 1: 887-1308-2-ND
Crystal 27MHz ??10ppm (Tol) ??10ppm (Stability) 10pF FUND 60Ohm 4-Pin SMD T/R; Lead-Free Status: Lead Free; Frequency: 27.0 MHz; Load Capacitance: 10.0 pF; Octopart URL: http://octopart.com/7m-27.000meeq-t-txc-18802924; Manufacturer Part Number: 7M-27.000MEEQ-T; RoHS: Compliant; Mounting Style: Surface Mount; Packaging: Reel; Number of Pins: 4; OctopartID: 39fbf1eff471e63c; Supplier 1: Digi-Key
footprint PCB-2yk91cifnmmf2absj5z0-1 (Footprint not found)
pins: 1, 2, 3, 4

## CMP-44e38d6a523d9b24-1
designator L?, comment 2.2 uH
Inductor Power Shielded Wirewound 2.2uH 30% 100KHz Ferrite 2.7A 40.8mOhm DCR 2424 T/R; Manufacturer Part Number: NR6020T2R2N; Self Resonant Frequency: 73.0 MHz; Octopart URL: http://octopart.com/nr6020t2r2n-taiyo+yuden-8598456; RoHS: Compliant; Mounting Style: Surface Mount; Halogen Free Status: Halogen Free; Packaging: Cut Tape (CT); Inductance: 2.2 uH; Lifecycle Status: Active; OctopartID: 44e38d6a523d9b24
footprint PCB-3woxzswlol7qy9xfr3pv-1 (Footprint - Taiyo Yuden NR6020T2R2N)
pins: 1, 2

## CMP-1076da6b8bd7cfb1-1
designator U?, comment ADS7041IDCUT
Ultra-Low Power and Ultra-Small Size SAR ADC; Lead-Free Status: Lead Free; Power Consumption: 189 µW; Octopart URL: http://octopart.com/ads7041idcut-texas+instruments-51887815; Manufacturer Part Number: ADS7041IDCUT; RoHS: Compliant; Packaging: Tape & Reel (TR); Case/Package: VSSOP; Lifecycle Status: Active; OctopartID: 1076da6b8bd7cfb1; Supplier 1: Digi-Key; Supplier 2: Digi-Key; Supplier Part Number 1: 296-39577-2-ND; Supplier Part Number 2: 296-39577-1-ND
footprint TSSOP50P310X90-8N (TSSOP, 8-Leads, Body 2.00x2.30mm, Pitch 0.50mm, IPC Medium Density)
pins: 1 DVDD, 2 SCLK, 3 SDO, 4 ~{CS}, 5 AINM, 6 AINP, 7 AVDD, 8 GND

## CMP-1505dc90e821cac2-4
designator U?, comment 74HC595PW
74HC(T)595 - 8-bit serial-in, serial or parallel-out shift register with output latches; 3-state; Manufacturer Part Number: 74HC595PW,112; Supply Voltage (DC): 2.00 V (min); Lead-Free Status: Lead Free; Octopart URL: http://octopart.com/74hc595pw%2C112-nxp+semiconductors-10475586; RoHS: Compliant; Mounting Style: Surface Mount; Packaging: Tube; Lifecycle Status: Active; Number of Pins: 16; OctopartID: 1505dc90e821cac2; Supplier 1: Mouser; Supplier Part Number 1: 771-74HC595PW-Q100
footprint TSOP65P640X95-16N (TSOP, 16-Leads, Body 5.00x4.40mm, Pitch 0.65mm, IPC Medium Density)
pins: 1 Q1, 2 Q2, 3 Q3, 4 Q4, 5 Q5, 6 Q6, 7 Q7, 8 GND, 9 Q7S, 10 ~{MR}, 11 SHCP, 12 STCP, 13 ~{OE}, 14 DS, 15 Q0, 16 Vcc

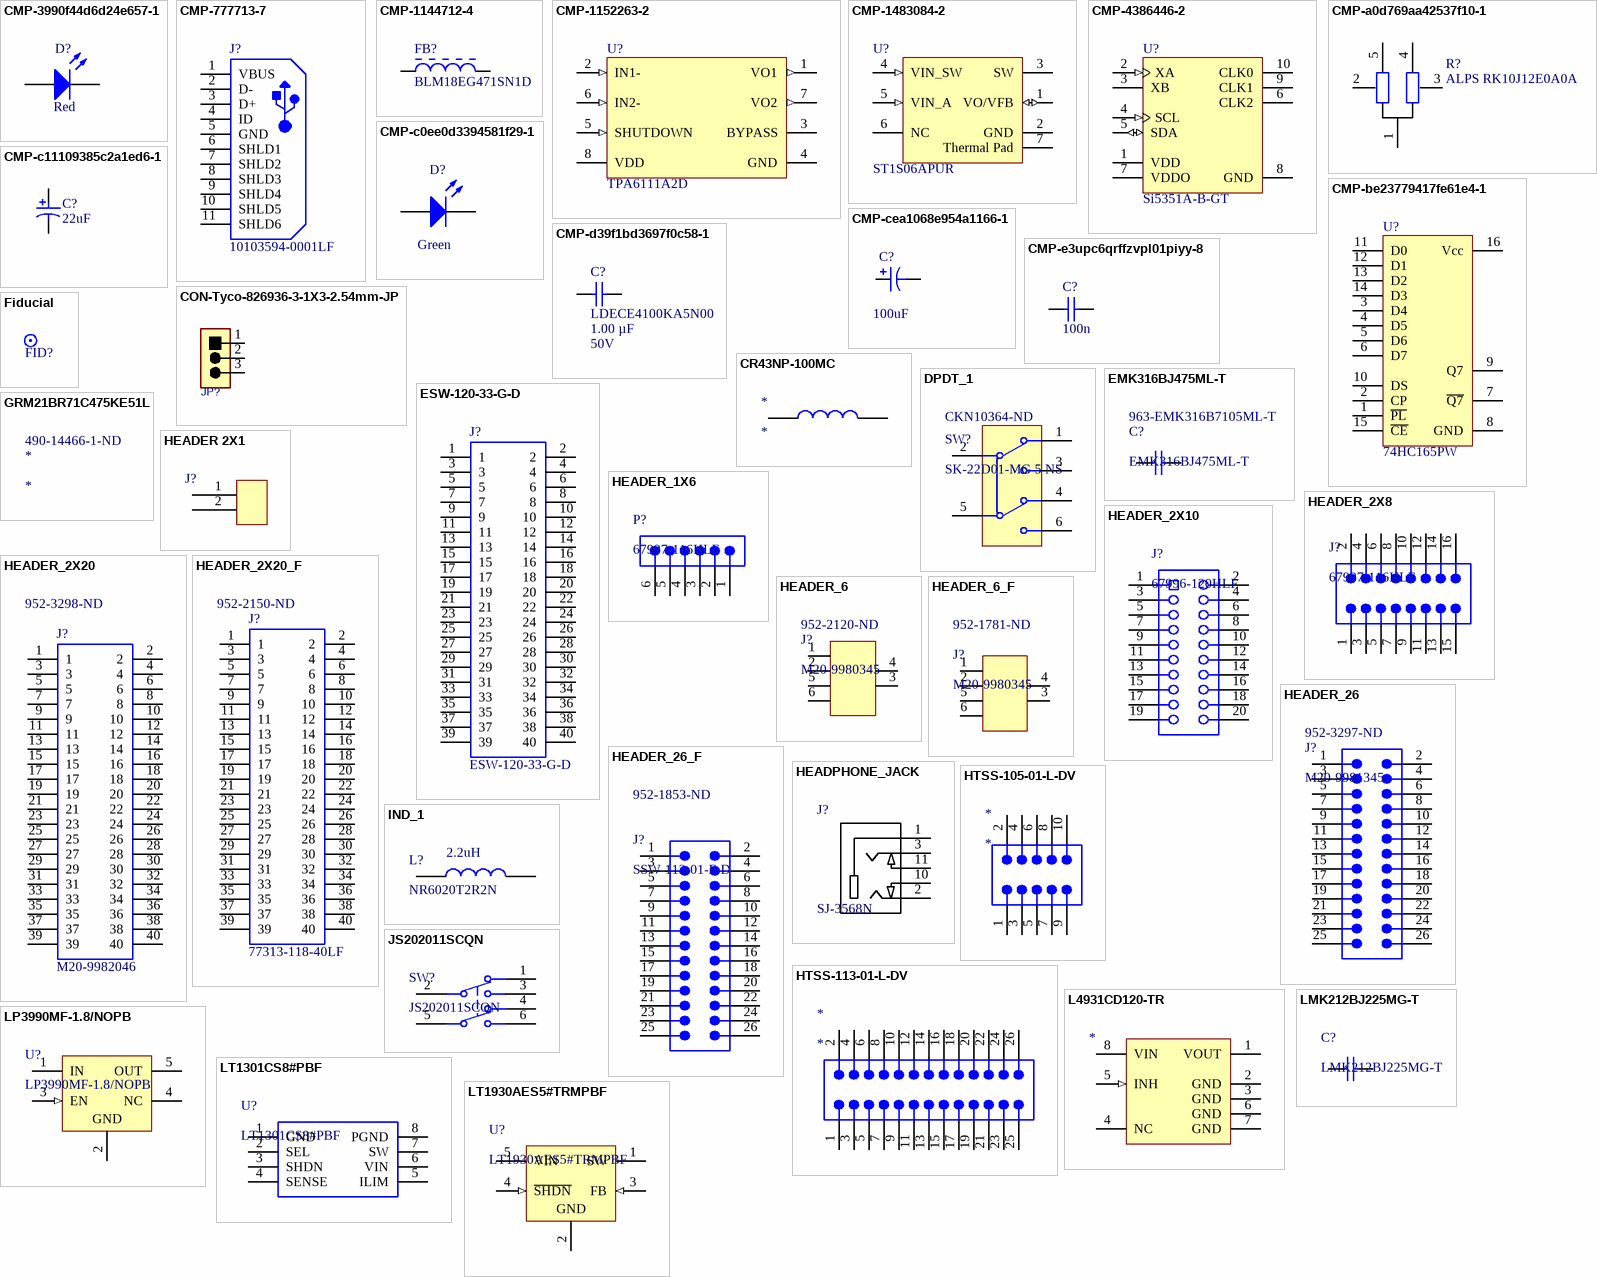
[diagram p1: symbols CMP-3990f44d6d24e657-1 to LT1930AES5#TRMPBF]

## CMP-3990f44d6d24e657-1
designator D?, comment Color: Red  (hidden comment: Kingbright APTD1608LSURCK)
Standard LEDs; SMD 0610 Dome Lens LED; 1.6x0.8 mm; Red; (Cut Reel); Octopart URL: http://octopart.com/aptd1608lsurck-kingbright-81228242; Manufacturer Part Number: APTD1608LSURCK; OctopartID: 3990f44d6d24e657; Supplier 1: Digi-Key; Supplier Part Number 1: 754-2038-1-ND
footprint PCB-9pb35s7134wdnkutz46f-1
pins: 1 A, 2 K

## CMP-777713-7
designator J?, comment Manufacturer Part Number: 10103594-0001LF  (hidden comment: FCI Electronics 10103594-0001LF)
Micro USB 2.0 B Receptacle, -55 to 85 degC, 5-Pin SMD, RoHS, Tape and Reel; Octopart URL: https://octopart.com/10103594-0001lf-fci-14406699
footprint FCI-10103594-0001LF_V
pins: 1 VBUS, 2 D-, 3 D+, 4 ID, 5 GND, 6 SHLD1, 7 SHLD2, 8 SHLD3, 9 SHLD4, 10 SHLD5, 11 SHLD6

## CMP-1144712-4
designator FB?, comment BLM18EG471SN1D
Chip Ferrite Bead for GHz Band General Use (Low DC Resistance Type), 470 Ohm, 500 mA, -55 to 125 degC, 1.6 x 0.8 x 0.95 mm SMD, Tape and Reel; Resistance: 470.0 Ω; Frequency: 100000000.0 Hz; REACH SVHC Compliance: No SVHC; Size-Width: 0.0008 m; OctopartID: 2d1ce4139696f2db; Case/Package: 0603; Mounting Style: Surface Mount; Packaging: Cut Tape (CT); RoHS: Compliant; Number of Pins: 2; Size-Length: 0.0016 m; Octopart Url: https://octopart.com/blm18eg471sn1d-murata-368364; Manufacturer Part Number: BLM18EG471SN1D; Supplier 1: Digi-Key; Supplier 2: Mouser; Supplier Part Number 1: 490-3993-1-ND; Supplier Part Number 2: 81-BLM18EG471SN1D
footprint C0603
footprint C0805
pins: 1, 2

## CMP-1152263-2
designator U?, comment TPA6111A2D
150-mW Stereo Headphone Audio Amplifier, Pin Compatible with LM4880 and LM4881, -40 to 85 degC, 8-pin SOIC (D8), Green (RoHS & no Sb/Br); Bandwidth: 20000.0 Hz; Lead-Free Status: Lead Free; Number of Channels: 1; Output Power: 0.15 W; Supply Voltage (DC): 5.5 V; Case/Package: SOIC; Lifecycle Status: Active; Mounting Style: Surface Mount; Number of Pins: 8; Octopart Url: https://octopart.com/tpa6111a2d-texas+instruments-2328379; OctopartID: d6f31fda74ae0934; Packaging: Tube; REACH SVHC Compliance: No SVHC; RoHS: Compliant; Manufacturer Part Number: TPA6111A2D; Supplier 1: Mouser; Supplier 2: Digi-Key; Supplier Part Number 1: 595-TPA6111A2DR; Supplier Part Number 2: 296-10846-1-ND
footprint TI-D8_N
footprint TI-D8_L
footprint TI-D8_M
pins: 1 VO1 (out) "VO1 is the audio output for channel 1.", 2 IN1- (in) "IN1- is the inverting input for channel 1.", 3 BYPASS "Tap to voltage divider for internal mid-supply bias supply. Connect to a 0.1 uF to 1 uF low ESR capacitor for best performance.", 4 GND (power) "GND is the ground connection.", 5 SHUTDOWN (in) "Puts the device in a low quiescent current mode when held high", 6 IN2- (in) "IN2- is the inverting input for channel 2.", 7 VO2 (out) "VO2 is the audio output for channel 2.", 8 VDD (power) "VDD is the supply voltage terminal."

## CMP-1483084-2
designator U?, comment ST1S06APUR
Synchronous rectification withOUT inhibit, 1.5 A, 1.5 MHz adjustable, step-down switching regulator, 6-Pin DFN; Lead-Free Status: Lead Free; Number of Outputs: 1; Output Current: 1.5 A; Lifecycle Status: Active; Number of Pins: 6; Octopart Url: https://octopart.com/st1s06pur-stmicroelectronics-39869966; OctopartID: dc05176fa76d03c2; Packaging: Reel; RoHS: Compliant; Manufacturer Part Number: ST1S06APUR; Supplier 1: Mouser; Supplier Part Number 1: 511-ST1S06APUR
footprint DFN6D_M (SON, 6-Leads, Body 3x3mm, Pitch 0.95mm, Thermal Pad 2.4x1.65mm, IPC Low Density)
pins: 1 VO/VFB (io), 2 GND (power), 3 SW, 4 VIN_SW (in), 5 VIN_A (in), 6 NC, 7 Thermal Pad (power)

## CMP-4386446-2
designator U?, comment Si5351A-B-GT
I2C-Programmable Any-Frequency CMOS Clock Generator + VCXO, 2.5 / 3.3 V, 0.008 to 160 MHz Output, -40 to 85 degC, 10-pin SOP; Lead-Free Status: Lead Free; Octopart Url: https://octopart.com/si5351a-b-gt-silicon+labs-24879779; OctopartID: 23aeebdfa46bfc69; RoHS: Compliant; Manufacturer Part Number: Si5351A-B-GT; Supplier 1: Digi-Key; Supplier Part Number 1: 336-2399-5-ND
footprint SLAB-MSOP-10_L (Footprint not found)
pins: 1 VDD (power) "Core voltage supply pin.", 2 XA (in) "Input pin for external crystal.", 3 XB "Input pin for external crystal.", 4 SCL (in) "Serial clock input for the I2C bus. This pin must be pulled-up using a pull-up resistor of at least 1 k ohm.", 5 SDA (io) "Serial data input for the I2C bus. This pin must be pulled-up using a pull-up resistor of at least 1 k ohm.", 6 CLK2 (hiz) "Output clock 2.", 7 VDDO (power) "Output voltage supply pin for CLK0, CLK1, and CLK2.", 8 GND (power) "Ground.", 9 CLK1 (hiz) "Output clock 1.", 10 CLK0 (hiz) "Output clock 0."

## CMP-a0d769aa42537f10-1
designator R?, comment ALPS RK10J12E0A0A
Res POT 10K Ohm 30% 3/100W 1(Elec)/1(Mech)Turn (14 X 14.65 X 3.8mm) Pin Thru-Hole; Octopart URL: http://octopart.com/rk10j12e0a0a-alps-7849954; Manufacturer Part Number: RK10J12E0A0A; Packaging: Bulk; Mounting Style: Through Hole; OctopartID: a0d769aa42537f10; Resistance: 10k; Supplier 1: Mouser; Supplier Part Number 1: 688-RK10J12E0A0A
footprint PCB-bpzirsx1nzwi749s8zg6-1
pins: 1, 2, 3, 4, 5

## CMP-be23779417fe61e4-1
designator U?, comment 74HC165PW
Shift Register Single 8-Bit Serial/Parallel to Serial 16-Pin TSSOP Tube; Manufacturer Part Number: 74HC165PW,112; Lead-Free Status: Lead Free; Octopart URL: http://octopart.com/74hc165pw%2C112-nxp+semiconductors-12422331; Packaging: Tube; RoHS: Compliant; Mounting Style: Surface Mount; Lifecycle Status: Active; OctopartID: be23779417fe61e4; Supplier 1: Mouser; Supplier Part Number 1: 771-HC165PW112
footprint TSOP65P640X95-16N (TSOP, 16-Leads, Body 5.00x4.40mm, Pitch 0.65mm, IPC Medium Density)
pins: 1 ~{PL}, 2 CP, 3 D4, 4 D5, 5 D6, 6 D7, 7 ~{Q7}, 8 GND, 9 Q7, 10 DS, 11 D0, 12 D1, 13 D2, 14 D3, 15 ~{CE}, 16 Vcc

## CMP-c0ee0d3394581f29-1
designator D?, comment Color: Green  (hidden comment: Kingbright APTD1608LCGCK)
Standard LEDs; SMD 0609 Dome Lens LED; 1.6x0.8 mm; Green; (Cut Reel); Octopart URL: http://octopart.com/aptd1608lcgck-kingbright-81228240; Manufacturer Part Number: APTD1608LCGCK; OctopartID: c0ee0d3394581f29; Supplier 1: Digi-Key; Supplier Part Number 1: 754-2037-1-ND
footprint PCB-8htaxz0y9d2n71id555a-1 (LED1608x55N)
pins: 1 A, 2 K

## CMP-c11109385c2a1ed6-1
designator C?, comment Capacitance: 22uF  (hidden comment: Nichicon UUQ1V220MCL1GB)
Cap Alum 22uf 20% 35v Smd; Octopart URL: http://octopart.com/uuq1v220mcl1gb-nichicon-19118173; Manufacturer Part Number: UUQ1V220MCL1GB; OctopartID: c11109385c2a1ed6; Voltage: 35V; Supplier 1: Digi-Key; Supplier Part Number 1: 493-17495-1-ND
footprint CAPAE7066X54M (Aluminum Electrolytic Capacitor, Body 6.60x6.60x5.40mm, IPC Low Density)
pins: 1, 2

## CMP-cea1068e954a1166-1
designator C?, comment Capacitance: 100uF  (hidden comment: ECEA1EKS101)
Cap Alum 100uf 20% 25v Radial; Manufacturer Part Number: ROB-25V101MG3#; Octopart URL: http://octopart.com/rob-25v101mg3%23-elna-19234445; Packaging: Bulk; Mounting Style: Through Hole; OctopartID: cea1068e954a1166; Supplier 1: Digi-Key; Supplier 2: Mouser; Supplier Part Number 2: 667-ECE-A1EKS101; Supplier Part Number 1: P19474-ND
footprint PCB-raf86s9qq6i5su8j9zfg-1 (Footprint - Elna ROB-25V101MG3#)
pins: 1, 2

## CMP-d39f1bd3697f0c58-1
designator C?, comment LDECE4100KA5N00  Capacitance: 1.00 µF  Voltage: 50V
Cap Film 1uF 50V PEN 10% (7.3 X 6.1 X 3.1mm) Stacked 125C Automotive T/R; Voltage Rating (DC): 50.0 V; Octopart URL: http://octopart.com/ldece4100ka5n00-kemet-21405574; Manufacturer Part Number: LDECE4100KA5N00; Case/Package: 2824; RoHS: Compliant; Mounting Style: Surface Mount; Packaging: Tape & Reel (TR); Capacitance Tolerance: ±10%; OctopartID: d39f1bd3697f0c58; Supplier 1: Digi-Key; Supplier 2: Digi-Key; Supplier Part Number 1: 399-6416-1-ND; Supplier Part Number 2: 399-6416-2-ND
footprint CAPC7361X31M
pins: 1, 2

## CMP-e3upc6qrffzvpl01piyy-8
designator C?, comment 100n
Generic Capacitor, credits for 3D models: Mike Tripoli; Voltage rating: *V; CustomComponentID: e3upc6qrffzvpl01piyy; Capacitance: 100n; Characteristic: *
footprint C0402
footprint C0603
footprint C0805
footprint C1210
pins: 1, 2

## CON-Tyco-826936-3-1X3-2.54mm-JP
designator JP?, comment 826936-3  (value not drawn)
Jumper, 3-Pin; Manufacturer Name: Tyco; No. of ways: 1X3; Pitch: 2.54mm; Manufacturer Part No.: 826936-3
footprint T_TYCO_826936-3 (Footprint not found)
pins: 1, 2, 3

## CR43NP-100MC
designator *
INDUCTOR POWER 10UH 1.04A SMD; Manufacturer: Sumida; Manufacturer Part Number: CR43NP-100MC; Core Material: Ferrite; Tolerance: 20%; Shielding: Unshielded; Self Resonant Frequency: 34.8MHz; DC Resistance (DCR): 182mR; Test Frequency: 2.52MHz; Supplier 1: Future Electronics; Stock 1: 0; Mount: Surface Mount; Case/Package: Nonstandard; Min Operating Temperature: -40°C; Max Operating Temperature: 100°C; Current Rating: 1.04A; Inductance: 10uh; Package Quantity: 1500; Packaging: Tape and Reel; Composition: Wirewound; Max DC Current: 1.04A; Termination: SMD/SMT; DC Current: 1.04A; Military Standard: Not; Length: 4.8mm; Height: 3.5mm; Width: 0.169inch; Height - Seated (Max): 0.138inch; Depth: 4.3mm; Radiation Hardening: No; Lead Free: Lead Free
footprint CR43-100MC
pins: 1, 2

## DPDT_1
designator SW?, comment SK-22D01-MG 5 NS  Supplier Part Number 1: CKN10364-ND
Manufacturer: ITT C&K; Actuator Material: PBT; Current Rating: 300mA; Voltage Rating (DC): 30V; Electrical Life: 10000Cycles; Throw Configuration: DPDT; Illumination Type: Non-Illuminated; Switch Travel: 2mm; Switch Function: On-On; Actuator Type: Standard; Actuator Length: 5mm; Supplier 1: Digi-Key; Manufacturer Part Number: SK-22D01-MG5NS; Stock 1: 10242; Pricing 1: 1 = 0,55000, 10 = 0,52400, 25 = 0,51320, 50 = 0,45860, 100 = 0,43680, 250 = 0,42588, 500 = 0,36036, 1000 = 0,34944, 5000 = 0,30576 (USD); RoHS: Yes; Mount: Through Hole; Contact Plating: Silver; Package Quantity: 1000; Contact Current Rating: 300mA; Packaging: Bulk; Termination: PC Pin; ComponentLink1URL: https://datasheet.ciiva.com/2889/sk-22d01-mg-2889186.pdf?src-supplier=Digi-Key; ComponentLink1Description: https://datasheet.ciiva.com/2889/sk-22d01-mg-2889186.pdf?src-supplier=Digi-Key; ComponentLink2URL: https://datasheet.ciiva.com/5279/sk-22d01-mg-190328-5279988.pdf?src-supplier=Mouser; ComponentLink2Description: https://datasheet.ciiva.com/5279/sk-22d01-mg-190328-5279988.pdf?src-supplier=Mouser
footprint SK22D01MG5NS
pins: 1, 2, 3, 4, 5, 6

## EMK316BJ475ML-T
designator C?  Supplier Part Number 1: 963-EMK316B7105ML-T
CAP CER 4.7UF 16V X5R 1206; Manufacturer: Taiyo Yuden; Tolerance: 20%; Manufacturer Part Number: EMK316BJ475ML-T; Mount: Surface Mount; Case/Package: 1206; Case Code (Metric): 3216; Case Code (Imperial): 1206; Min Operating Temperature: -55°C; Max Operating Temperature: 85°C; Capacitance: 4.7uF; Package Quantity: 2000; Voltage Rating: 16V; Packaging: Tape and Reel; Dielectric: X5R; Termination: SMD/SMT; Voltage Rating (DC): 16V; Voltage: 16V; Length: 3.2mm; Height: 1.6mm; Width: 0.063inch; Thickness: 0.071inch; Depth: 1.6mm; Lead Free: Lead Free; Halogen Free: Halogen Free; ComponentLink1URL: http://ds.yuden.co.jp/TYCOMPAS/ut/detail.do?productNo=EMK316BJ475ML-T&fileName=EMK316BJ475ML-T_SS&mode=specSheetDownload; ComponentLink1Description: http://ds.yuden.co.jp/TYCOMPAS/ut/detail.do?productNo=EMK316BJ475ML-T&fileName=EMK316BJ475ML-T_SS&mode=specSheetDownload; ComponentLink2URL: http://www.onlinecomponents.com/productFiles/mf-TAI/1005emk316bj475ml-t.pdf; ComponentLink2Description: http://www.onlinecomponents.com/productFiles/mf-TAI/1005emk316bj475ml-t.pdf; ComponentLink3URL: http://www.mouser.com/ds/2/396/mlcc_all_e-1149778.pdf; ComponentLink3Description: http://www.mouser.com/ds/2/396/mlcc_all_e-1149778.pdf; Supplier 1: Mouser
footprint CAPC1206(3216)110_L (Chip Capacitor, Body 3.2x1.6mm, Height 1.1mm, IPC High Density)
pins: 1, 2